# Altium schematic symbol library jobeiri_library.SchLib: 1 symbol
Pins are listed as number, name and electrical type; pins without a type are passive.

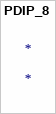
[diagram p0: symbol PDIP_8]

## PDIP_8
designator *